# EAGLE library part *4053B? (library 405x)
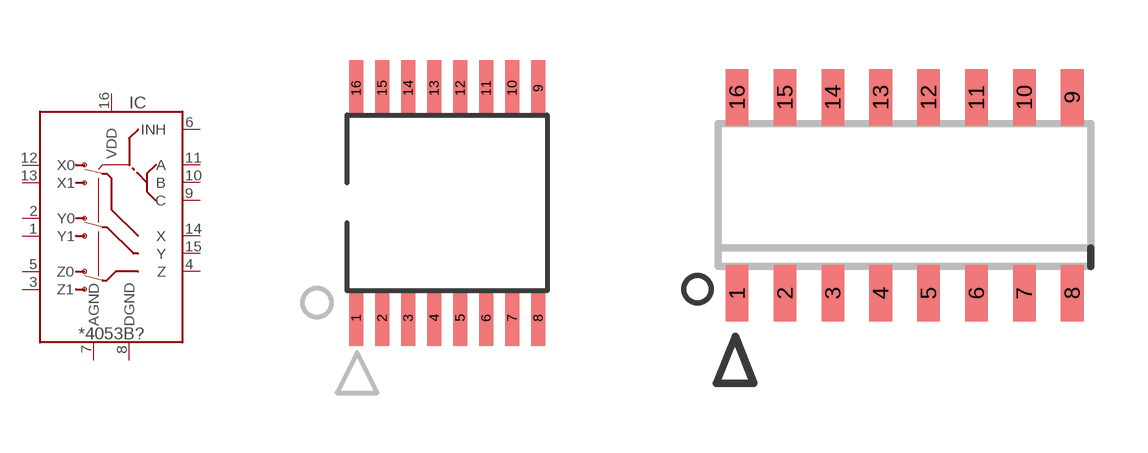
[diagram p2: symbol with the pads of TSSOP-16; footprints TSSOP-16, SOIC16N]

Designator prefix IC

## CD4053BPW (MARK: CM053B; MF: Texas Instruments; MPN: CD4053BPW)  [TSSOP-16]
1  Y1
2  Y0
3  Z1
4  Z
5  Z0
6  INH  pwr
7  AGND  pwr
8  DGND  pwr
9  C  in
10  B  in
11  A  in
12  X0
13  X1
14  X  pwr
15  Y
16  VDD  pwr

## MC14053BDTR2G (MARK: 14 053B; MF: ONSemi; MPN: MC14053BDTR2G)  [TSSOP-16]
Pads as for TSSOP-16

## MC14053BDG (MARK: 14053BG; MF: ONSemi; MPN: MC14053BDG)  [SOIC16N]
Pads as for TSSOP-16

## CD4053BM (MARK: CD4053M; MF: Texas Instruments; MPN: CD4053BM)  [SOIC16N]
Pads as for TSSOP-16

## Footprint TSSOP-16 (pad centres in mm)
smd 0.35 x 1.4: 1 -2.275,-2.875; 2 -1.625,-2.875; 3 -0.975,-2.875; 4 -0.325,-2.875; 5 0.325,-2.875; 6 0.975,-2.875; 7 1.625,-2.875; 8 2.275,-2.875; 9 2.275,2.875; 10 1.625,2.875; 11 0.975,2.875; 12 0.325,2.875; 13 -0.325,2.875; 14 -0.975,2.875; 15 -1.625,2.875; 16 -2.275,2.875

## Footprint SOIC16N (pad centres in mm)
SMALL OUTLINE INTEGRATED CIRCUIT
smd 0.6 x 1.5: 1 -4.445,-2.6; 2 -3.175,-2.6; 3 -1.905,-2.6; 4 -0.635,-2.6; 5 0.635,-2.6; 6 1.905,-2.6; 7 3.175,-2.6; 8 4.445,-2.6; 9 4.445,2.6; 10 3.175,2.6; 11 1.905,2.6; 12 0.635,2.6; 13 -0.635,2.6; 14 -1.905,2.6; 15 -3.175,2.6; 16 -4.445,2.6